# Altium footprint library ESP8266 SOCKET.PcbLib: 1 footprints
Each footprint in its own frame and in the unit in brackets; x right, y up, seen from the top. Pads: shape width x height; smd on the part's side, far side on the other; paste and mask are expansions set on the pad; w line width, h text height; cw(c..) or ccw(c..) is an arc to the next point about the centre after c.
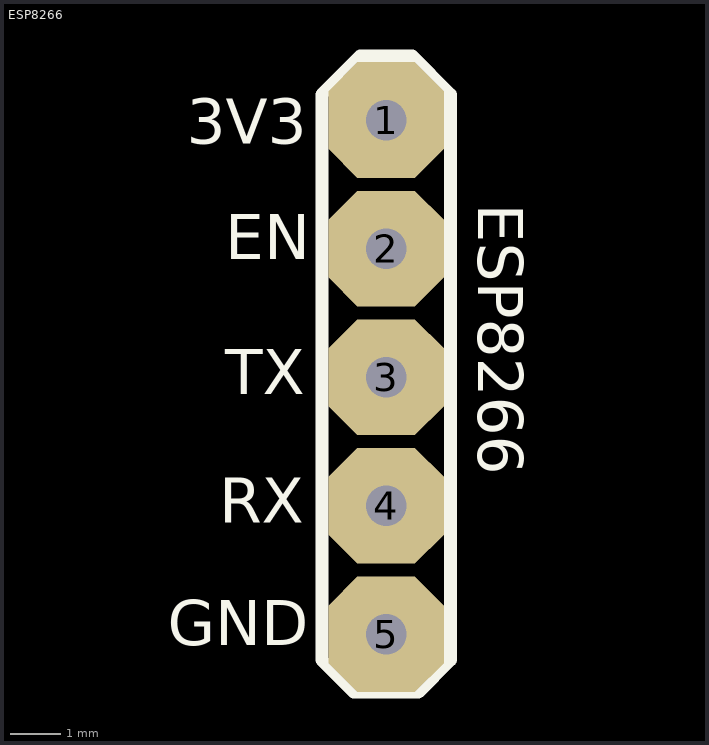
[diagram p0: the footprint, top view; thin cyan lines are the x and y axes]

## ESP8266 [mil]
pads (5):
  oct 90x90 hole 31.5: 1(-33405,-23690) 2(-33405,-23790) 3(-33405,-23890) 4(-33405,-23990) 5(-33405,-24090)
Top Overlay:
  lines w10: -33455,-24110 -33455,-23670 -33425,-23640 -33385,-23640 -33355,-23670 -33355,-24110 -33380,-24135 -33430,-24135 -33455,-24110
  text "GND" at -33575,-24110 h60
  text "RX" at -33535,-24015 h60
  text "TX" at -33530,-23915 h60
  text "EN" at -33530,-23810 h60
  text "3V3" at -33560,-23720 h60
  text "ESP8266" at -33345,-23755 h60